# Altium schematic symbol library DebugBoard.SchLib: 10 symbols
Pins are listed as number, name and electrical type; pins without a type are passive.

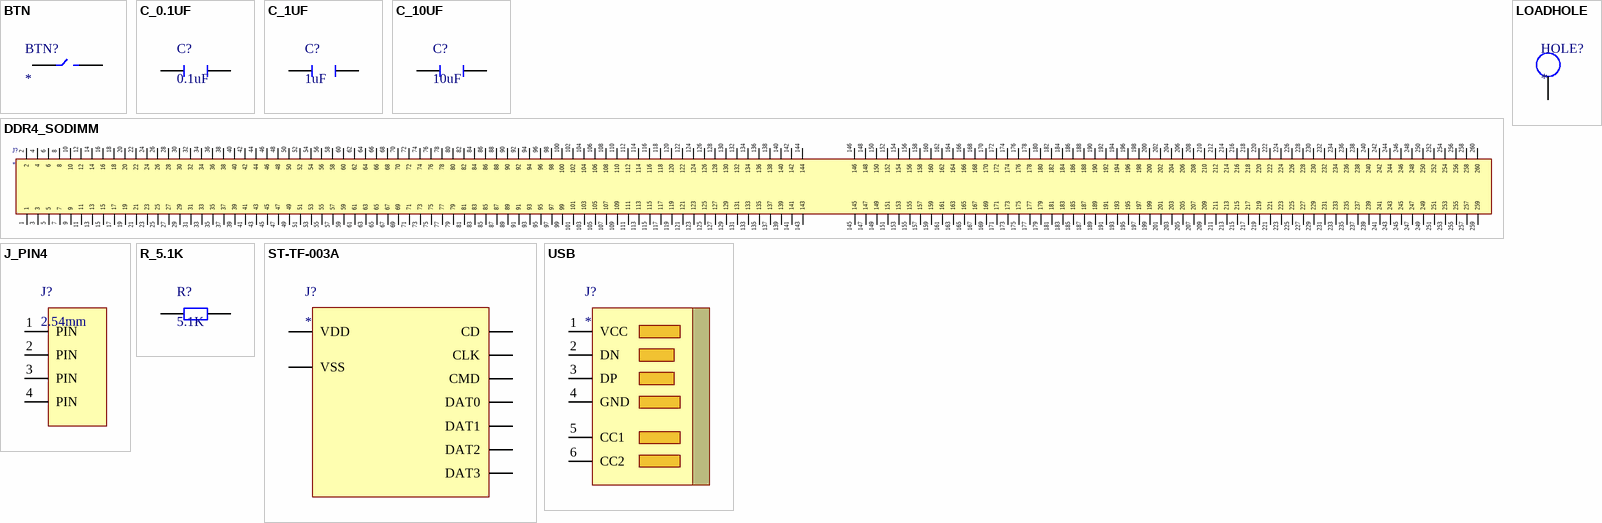
[diagram p0: symbols BTN to USB]

## BTN
designator BTN?
footprint BTN
pins: 1, 2

## C_0.1UF
designator C?, comment 0.1uF
footprint C0603
pins: 1 17, 2 18

## C_1UF
designator C?, comment 1uF
footprint C0603
pins: 1 17, 2 18

## C_10UF
designator C?, comment 10uF
footprint C0603
pins: 1 17, 2 18

## DDR4_SODIMM
designator J?
footprint DDR4_SODIMM
pins: 1, 2, 3, 4, 5, 6, 7, 8, 9, 10, 11, 12, 13, 14, 15, 16, 17, 18, 19, 20, 21, 22, 23, 24, 25, 26, 27, 28, 29, 30, 31, 32, 33, 34, 35, 36, 37, 38, 39, 40, 41, 42, 43, 44, 45, 46, 47, 48, 49, 50, 51, 52, 53, 54, 55, 56, 57, 58, 59, 60, 61, 62, 63, 64, 65, 66, 67, 68, 69, 70, 71, 72, 73, 74, 75, 76, 77, 78, 79, 80, 81, 82, 83, 84, 85, 86, 87, 88, 89, 90, 91, 92, 93, 94, 95, 96, 97, 98, 99, 100, 101, 102, 103, 104, 105, 106, 107, 108, 109, 110, 111, 112, 113, 114, 115, 116, 117, 118, 119, 120, 121, 122, 123, 124, 125, 126, 127, 128, 129, 130, 131, 132, 133, 134, 135, 136, 137, 138, 139, 140, 141, 142, 143, 144, 145, 146, 147, 148, 149, 150, 151, 152, 153, 154, 155, 156, 157, 158, 159, 160, 161, 162, 163, 164, 165, 166, 167, 168, 169, 170, 171, 172, 173, 174, 175, 176, 177, 178, 179, 180, 181, 182, 183, 184, 185, 186, 187, 188, 189, 190, 191, 192, 193, 194, 195, 196, 197, 198, 199, 200, 201, 202, 203, 204, 205, 206, 207, 208, 209, 210, 211, 212, 213, 214, 215, 216, 217, 218, 219, 220, 221, 222, 223, 224, 225, 226, 227, 228, 229, 230, 231, 232, 233, 234, 235, 236, 237, 238, 239, 240, 241, 242, 243, 244, 245, 246, 247, 248, 249, 250, 251, 252, 253, 254, 255, 256, 257, 258, 259, 260

## J_PIN4
designator J?, comment 2.54mm
footprint J_PIN4
pins: 1 PIN, 2 PIN, 3 PIN, 4 PIN

## LOADHOLE
designator HOLE?
footprint LOADHOLE
pins: 1

## R_5.1K
designator R?, comment 5.1K
footprint R0603
pins: 1 17, 2 18

## ST-TF-003A
designator J?
footprint ST-TF-003A
pins: 1 DAT2, 2 DAT3, 3 CMD, 4 VDD, 5 CLK, 6 VSS, 7 DAT0, 8 DAT1, 9 CD

## USB
designator J?
footprint USB-A-S-F-O
footprint USB-4105-GF-A
footprint USB-A-S-S-W-TH
pins: 1 VCC, 2 DN, 3 DP, 4 GND, 5 CC1, 6 CC2